# EAGLE library part 693022010811 (library EAGLE-INPUT_OUTPUT_CONNECTORS-rev17c)
WR-CRD_Micro SIM_Hinge_w Card Stop_SMT Micro SIM Hinge Type SMT - with Card Stop - 1.95mm Height - T&R with Mylar for Pick & Place Con_I-O_COM_CRD_SIM_Micro_693022010811_693022010811 <http://katalog.we-online.de/media/images/eican/Con_I-O_COM_CRD_SIM_Micro_693022010811_pf2.jpg> Details see: http://katalog.we-online.de/en/em/CRD_MICRO_SIM/693022010811 Created 2014-12-22, aslant tao 2014 (C) Würth Elektronik
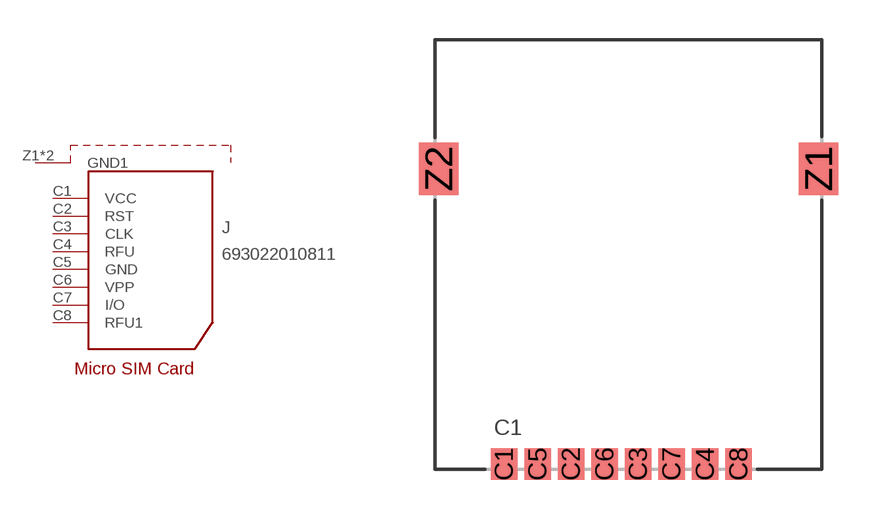
[diagram p143: symbol with the pads of 693022010811; footprint 693022010811]

Designator prefix J

## 693022010811  [693022010811]
C1  VCC
C2  RST
C3  CLK
C4  RFU
C5  GND
C6  VPP
C7  I/O
C8  RFU1
Z1  GND1
Z2  GND1

## Footprint 693022010811 (pad centres in mm)
smd 1 x 1.2: C1 -4.72,0; C2 -2.18,0; C3 0.36,0; C4 2.9,0; C5 -3.45,0; C6 -0.91,0; C7 1.63,0; C8 4.17,0
smd 1.5 x 2: Z1 7.2,11.2; Z2 -7.2,11.2